# Altium integrated library PTS645SM43SMTR92LFS.IntLib: 1 symbol
Pins are listed as number, name and electrical type; pins without a type are passive.

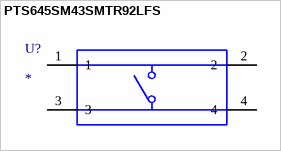
[diagram p0: symbol PTS645SM43SMTR92LFS]

## PTS645SM43SMTR92LFS
designator U?
Tactile Switches SWITCH TACTILE; MF: C&K; MP: PTS645SM43SMTR92LFS; Value: *; Price: None; Check_prices: https://www.snapeda.com/parts/PTS645SM43SMTR92LFS/C&K/view-part/5508133/?ref=eda; SnapEDA_Link: https://www.snapeda.com/parts/PTS645SM43SMTR92LFS/C&K/view-part/5508133/?ref=snap; Purchase-URL: https://pricing.snapeda.com/search/part/PTS645SM43SMTR92LFS/?ref=eda; Package: None; Availability: Warning
footprint SWITCH_43SMTR92LFS
pins: 1, 2, 3, 4